# Altium schematic symbol library Inductor_Ferrite Cored_ADJ_1.Schlib: 1 symbol
Pins are listed as number, name and electrical type; pins without a type are passive.

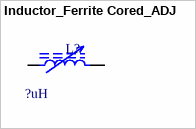
[diagram p0: symbol Inductor_Ferrite Cored_ADJ]

## Inductor_Ferrite Cored_ADJ
designator L?  Inductance Range: ?uH  (hidden comment: Inductor_Ferrite Cored_ADJ)
footprint SOP6_ADJ Inductor
pins: 1, 2